# EAGLE library part DAC8562SDGSR (library DAC8562SDGSR)
16-bit, dual-channel, low-power, ultra-low glitch, voltage output DAC with 2.5V, 4ppm/C reference Source: Datasheet <http://www.ti.com/lit/gpn/dac8562>
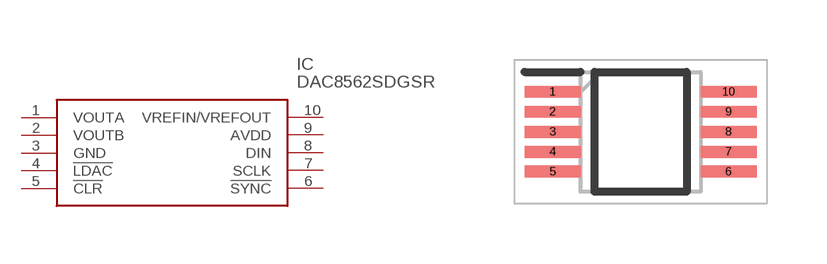
[diagram p0: symbol with the pads of SOP50P490X110-10N; footprint SOP50P490X110-10N]

Designator prefix IC

## DAC8562SDGSR (Description: 16-bit, dual-channel, low-power, ultra-low glitch, voltage output DAC with 2.5V, 4ppm/C reference; Height: 1.1mm; Manufacturer_Name: Texas Instruments; Manufacturer_Part_Number: DAC8562SDGSR; Mouser_Part_Number: 595-DAC8562SDGSR; Mouser_Price-Stock: https://www.mouser.co.uk/ProductDetail/Texas-Instruments/DAC8562SDGSR?qs=L4ss%2FyqpMWQjhHzbOFnTNg%3D%3D)  [SOP50P490X110-10N]
1  VOUTA
2  VOUTB
3  GND
4  !LDAC
5  !CLR
6  !SYNC
7  SCLK
8  DIN
9  AVDD
10  VREFIN/VREFOUT

## Footprint SOP50P490X110-10N (pad centres in mm)
10 vssop
smd 1.4 x 0.3: 1 -2.2,1; 2 -2.2,0.5; 3 -2.2,0; 4 -2.2,-0.5; 5 -2.2,-1; 6 2.2,-1; 7 2.2,-0.5; 8 2.2,0; 9 2.2,0.5; 10 2.2,1